# Altium schematic symbol library BD4275.SchLib: 2 symbols
Pins are listed as number, name and electrical type; pins without a type are passive.

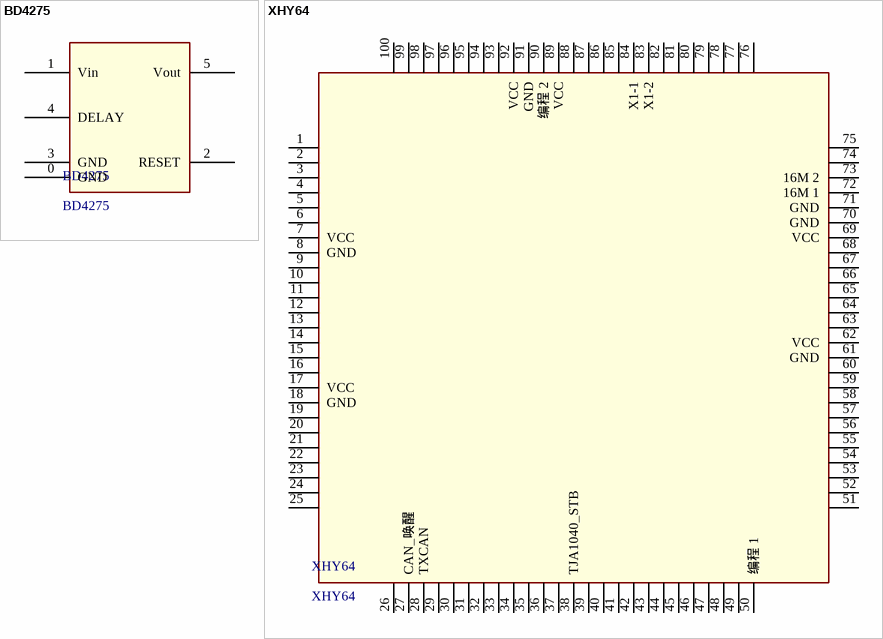
[diagram p0: symbols BD4275 to XHY64]

## BD4275
designator BD4275
footprint TO-263
pins: 0 GND, 1 Vin, 2 RESET, 3 GND, 4 DELAY, 5 Vout

## XHY64
designator XHY64
footprint QUAD100
pins: 1, 2, 3, 4, 5, 6, 7 VCC, 8 GND, 9, 10, 11, 12, 13, 14, 15, 16, 17 VCC, 18 GND, 19, 20, 21, 22, 23, 24, 25, 26, 27 CAN_唤醒, 28 TXCAN, 29, 30, 31, 32, 33, 34, 35, 36, 37, 38 TJA1040_STB, 39, 40, 41, 42, 43, 44, 45, 46, 47, 48, 49, 50 编程 1, 51, 52, 53, 54, 55, 56, 57, 58, 59, 60, 61 GND, 62 VCC, 63, 64, 65, 66, 67, 68, 69 VCC, 70 GND, 71 GND, 72 16M 1, 73 16M 2, 74, 75, 76, 77, 78, 79, 80, 81, 82, 83 X1-2, 84 X1-1, 85, 86, 87, 88, 89 VCC, 90 编程 2, 91 GND, 92 VCC, 93, 94, 95, 96, 97, 98, 99, 100